# Altium footprint library OKmePCBLibrary.PcbLib: 194 footprints (part 5 of 13)
Each footprint in its own frame and in the unit in brackets; x right, y up, seen from the top. Pads: shape width x height; smd on the part's side, far side on the other; paste and mask are expansions set on the pad; w line width, h text height; cw(c..) or ccw(c..) is an arc to the next point about the centre after c.
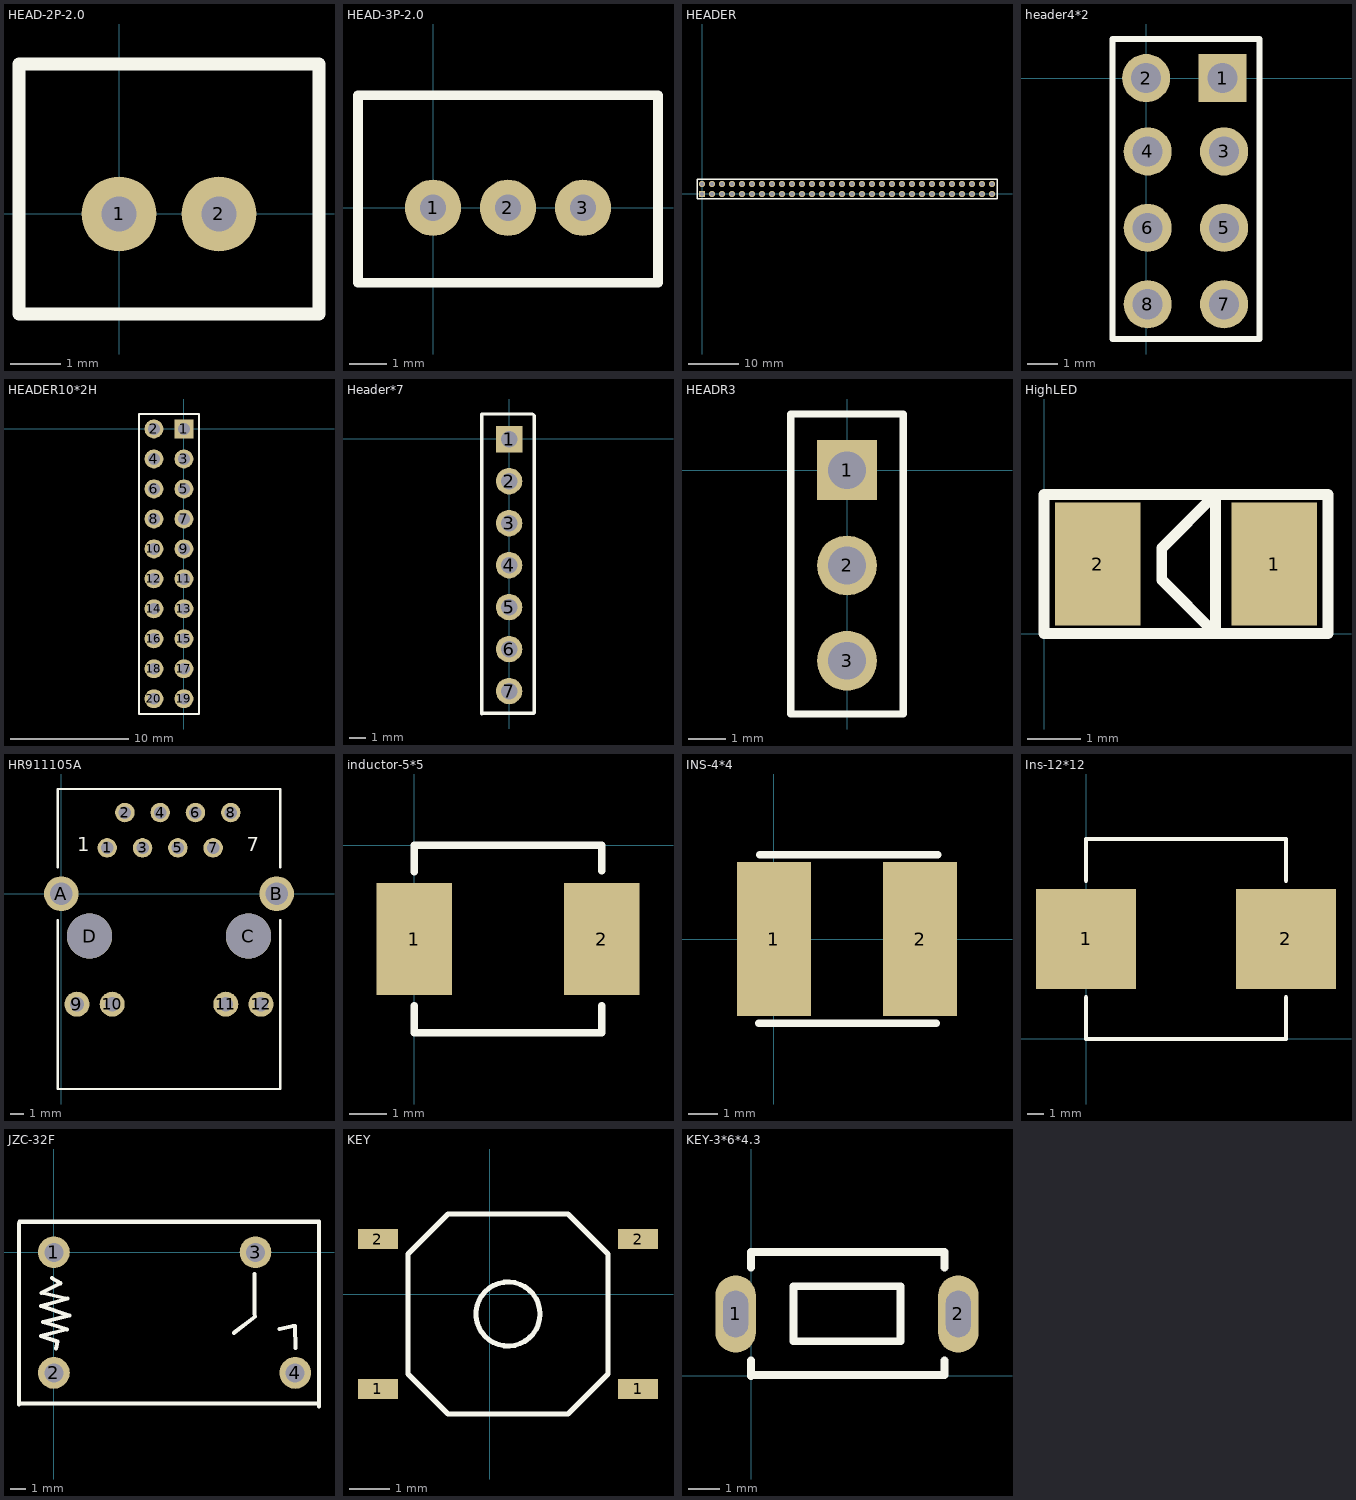
[diagram p4: the footprints below, top view; thin cyan lines are the x and y axes]

## HEAD-2P-2.0 [mm]
pads (2):
  round 1.5 hole 0.7: 1(0,0) 2(2,0)
Top Overlay:
  lines w0.254: -2,-2 -2,3 4,3 4,-2 -2,-2

## HEAD-3P-2.0 [mm]
pads (3):
  round 1.5 hole 0.7: 1(0,0) 2(2,0) 3(4,0)
Top Overlay:
  lines w0.254: -2,-2 6,-2 6,3 -2,3 -2,-2

## HEADER [mm]
pads (60):
  rect 1.2x1.2 hole 0.8: 1(0,0)
  round 1.2 hole 0.8: 2(0,2) 3(2,0) 4(2,2) 5(4,0) 6(4,2) 7(6,0) 8(6,2) 9(8,0) 10(8,2) 11(10,0) 12(10,2) 13(12,0) 14(12,2) 15(14,0) 16(14,2) 17(16,0) 18(16,2) 19(18,0) 20(18,2) 21(20,0) 22(20,2) 23(22,0) 24(22,2) 25(24,0) 26(24,2) 27(26,0) 28(26,2) 29(28,0) 30(28,2) 31(30,0) 32(30,2) 33(32,0) 34(32,2) 35(34,0) 36(34,2) 37(36,0) 38(36,2) 39(38,0) 40(38,2) 41(40,0) 42(40,2) 43(42,0) 44(42,2) 45(44,0) 46(44,2) 47(46,0) 48(46,2) 49(48,0) 50(48,2) 51(50,0) 52(50,2) 53(52,0) 54(52,2) 55(54,0) 56(54,2) 57(56,0) 58(56,2) 59(58,0) 60(58,2)
Top Overlay:
  lines w0.254: -1,-1 -1,3 59,3 59,-1 -1,-1

## HEADER2*17 [mm]

## header4*2 [mm]
pads (8):
  rect 1.6x1.6 hole 1: 1(2.54,0)
  round 1.6 hole 1: 2(0,0) 3(2.59,-2.44) 4(0.05,-2.44) 5(2.59,-4.98) 6(0.05,-4.98) 7(2.59,-7.52) 8(0.05,-7.52)
Top Overlay:
  lines w0.2: -1.125,-8.675 -1.125,1.3 3.775,1.3 3.775,-8.675 -1.125,-8.675

## HEADER10*2H [mm]
pads (20):
  rect 1.6x1.6 hole 1: 1(0,0)
  round 1.6 hole 1: 2(-2.54,0) 3(0,-2.54) 4(-2.54,-2.54) 5(0,-5.08) 6(-2.54,-5.08) 7(0,-7.62) 8(-2.54,-7.62) 9(0,-10.16) 10(-2.54,-10.16) 11(0,-12.7) 12(-2.54,-12.7) 13(0,-15.24) 14(-2.54,-15.24) 15(0,-17.78) 16(-2.54,-17.78) 17(0,-20.32) 18(-2.54,-20.32) 19(0,-22.86) 20(-2.54,-22.86)
Top Overlay:
  lines w0.2: -3.81,-24.1 -3.81,1.25 ; -3.775,-24.15 1.25,-24.15 ; -3.775,1.27 1.275,1.27 ; 1.27,-24.15 1.27,1.25

## Header*7 [mm]
pads (7):
  rect 1.6x1.6 hole 1: 1(-0.025,-0.025)
  round 1.6 hole 1: 2(-0.025,-2.565) 3(-0.025,-5.105) 4(-0.025,-7.645) 5(-0.025,-10.185) 6(-0.025,-12.725) 7(-0.025,-15.265)
Top Overlay:
  lines w0.2: -1.676,-16.651 -1.676,1.499 -1.168,1.499 1.4,1.499 1.5,1.399 1.5,-16.575 1.475,-16.6 -1.625,-16.6 -1.676,-16.651

## HEADR3 [mm]
pads (3):
  rect 1.6x1.6 hole 1: 1(0,0)
  round 1.6 hole 1: 2(0,-2.54) 3(0,-5.08)
Top Overlay:
  lines w0.2: -1.5,-6.5 1.5,-6.5 1.5,1.5 -1.5,1.5 -1.5,-6.5

## HighLED [mm]
pads (2):
  rect 1.6x2.3 smd: 1(4.3,1.3) 2(1,1.3)
Top Overlay:
  lines w0.2: 3.2,0 2.2,1 2.2,1.2 2.2,1.6 3.2,2.6
  lines w0.203: 3.2,0 3.2,2.6 ; 5.3,0.5 5.3,0.6 ; 0,0 4.083,0 5.3,0 5.3,2.6 0,2.6 0,0

## HR911105A [mm]
pads (16):
  round 1.4 hole 0.9: 1(3.3,3.3) 2(4.57,5.84) 3(5.84,3.3) 4(7.11,5.84) 5(8.38,3.3) 6(9.65,5.84) 7(10.92,3.3) 8(12.19,5.84)
  round 1.8 hole 1.02: 9(1.12,-7.95) 10(3.66,-7.95) 11(11.83,-7.95) 12(14.37,-7.95)
  round 2.5 hole 1.63: A(0,0) B(15.49,0)
  round 3.25 hole 3.25: C(13.46,-3.05) D(2.03,-3.05)
Top Overlay:
  lines w0.152: -0.257,1.903 -0.257,7.491 ; -0.255,-1.907 -0.255,-14.05 15.745,-14.05 ; -0.255,7.533 15.745,7.533 ; 15.745,-13.972 15.745,-1.907 ; 15.745,1.903 15.745,7.491
  text "7" at 13.332,3.046 h1.02
  text "1" at 1.14,3.046 h1.02

## inductor-5*5 [mm]
pads (2):
  rect 2x3 smd: 1(0,-2.5) 2(5,-2.5)
Top Overlay:
  lines w0.2: 0,-4.275 0,-5 5,-5 5,-4.275 ; 0,-0.7 0,0 5,0 5,-0.675

## INS-4*4 [mm]
pads (2):
  rect 2.5x5.2 smd: 1(0,0) 2(4.953,0)
Top Overlay:
  lines w0.254: -0.508,-2.854 5.492,-2.854 ; -0.483,2.854 5.544,2.854

## Ins-12*12 [mm]
pads (2):
  rect 6x6 smd: 1(0,6) 2(12,6)
Top Overlay:
  lines w0.25: 0,2.5 0,0 12,0 12,2.5 ; 0,9.5 0,12 12,12 12,9.5

## JZC-32F [mm]
pads (4):
  round 2 hole 1.2: 1(0,0) 2(0,-7.6) 3(12.7,0) 4(15.2,-7.6)
Top Overlay:
  lines w0.254: -2.2,-9.6 -2.2,1.8 ; -2.175,1.925 16.625,1.925 ; -2.1,-9.525 16.625,-9.525 ; -0.125,-1.625 0.425,-1.95 -0.775,-2.55 0.85,-2.925 -0.8,-3.375 0.975,-3.975 -0.675,-4.4 0.825,-4.85 -0.825,-5.275 0.225,-5.625 0.125,-6.075 ; 11.35,-5.075 12.675,-4.05 ; 12.625,-3.9 12.625,-1.375 ; 14.225,-4.825 15.075,-4.65 ; 15.2,-4.65 15.225,-6.025 ; 16.7,-9.725 16.7,1.95

## KEY [mm]
pads (4):
  rect 1x0.5 smd: 1(-2.8,-2.375) 1(3.7,-2.375) 2(-2.8,1.375) 2(3.7,1.375)
Top Overlay:
  circle w0.127: c0.45,-0.5 r0.8
  lines w0.127: -2.05,-2 -2.05,1 -1.05,2 1.95,2 2.95,1 2.95,-2 1.95,-3 -1.05,-3 -2.05,-2

## KEY-3*6*4.3 [mm]
pads (2):
  oval 1.3x2.5 hole 0.8 slot 1.5 at 90 deg: 1(-0.5,2) 2(6.7,2)
Top Overlay:
  lines w0.254: 0,0 0,0.5 ; 0,0.025 6.25,0.025 6.25,0.5 ; 0,3.5 0,4 6.2,4 ; 6.25,3.5 6.25,4 ; 6.2,4 6.2,4 ; 1.372,1.118 4.826,1.118 4.826,2.896 1.372,2.896 1.372,1.118